# Altium integrated library NSC Interface.IntLib: 481 symbols (part 10 of 16)
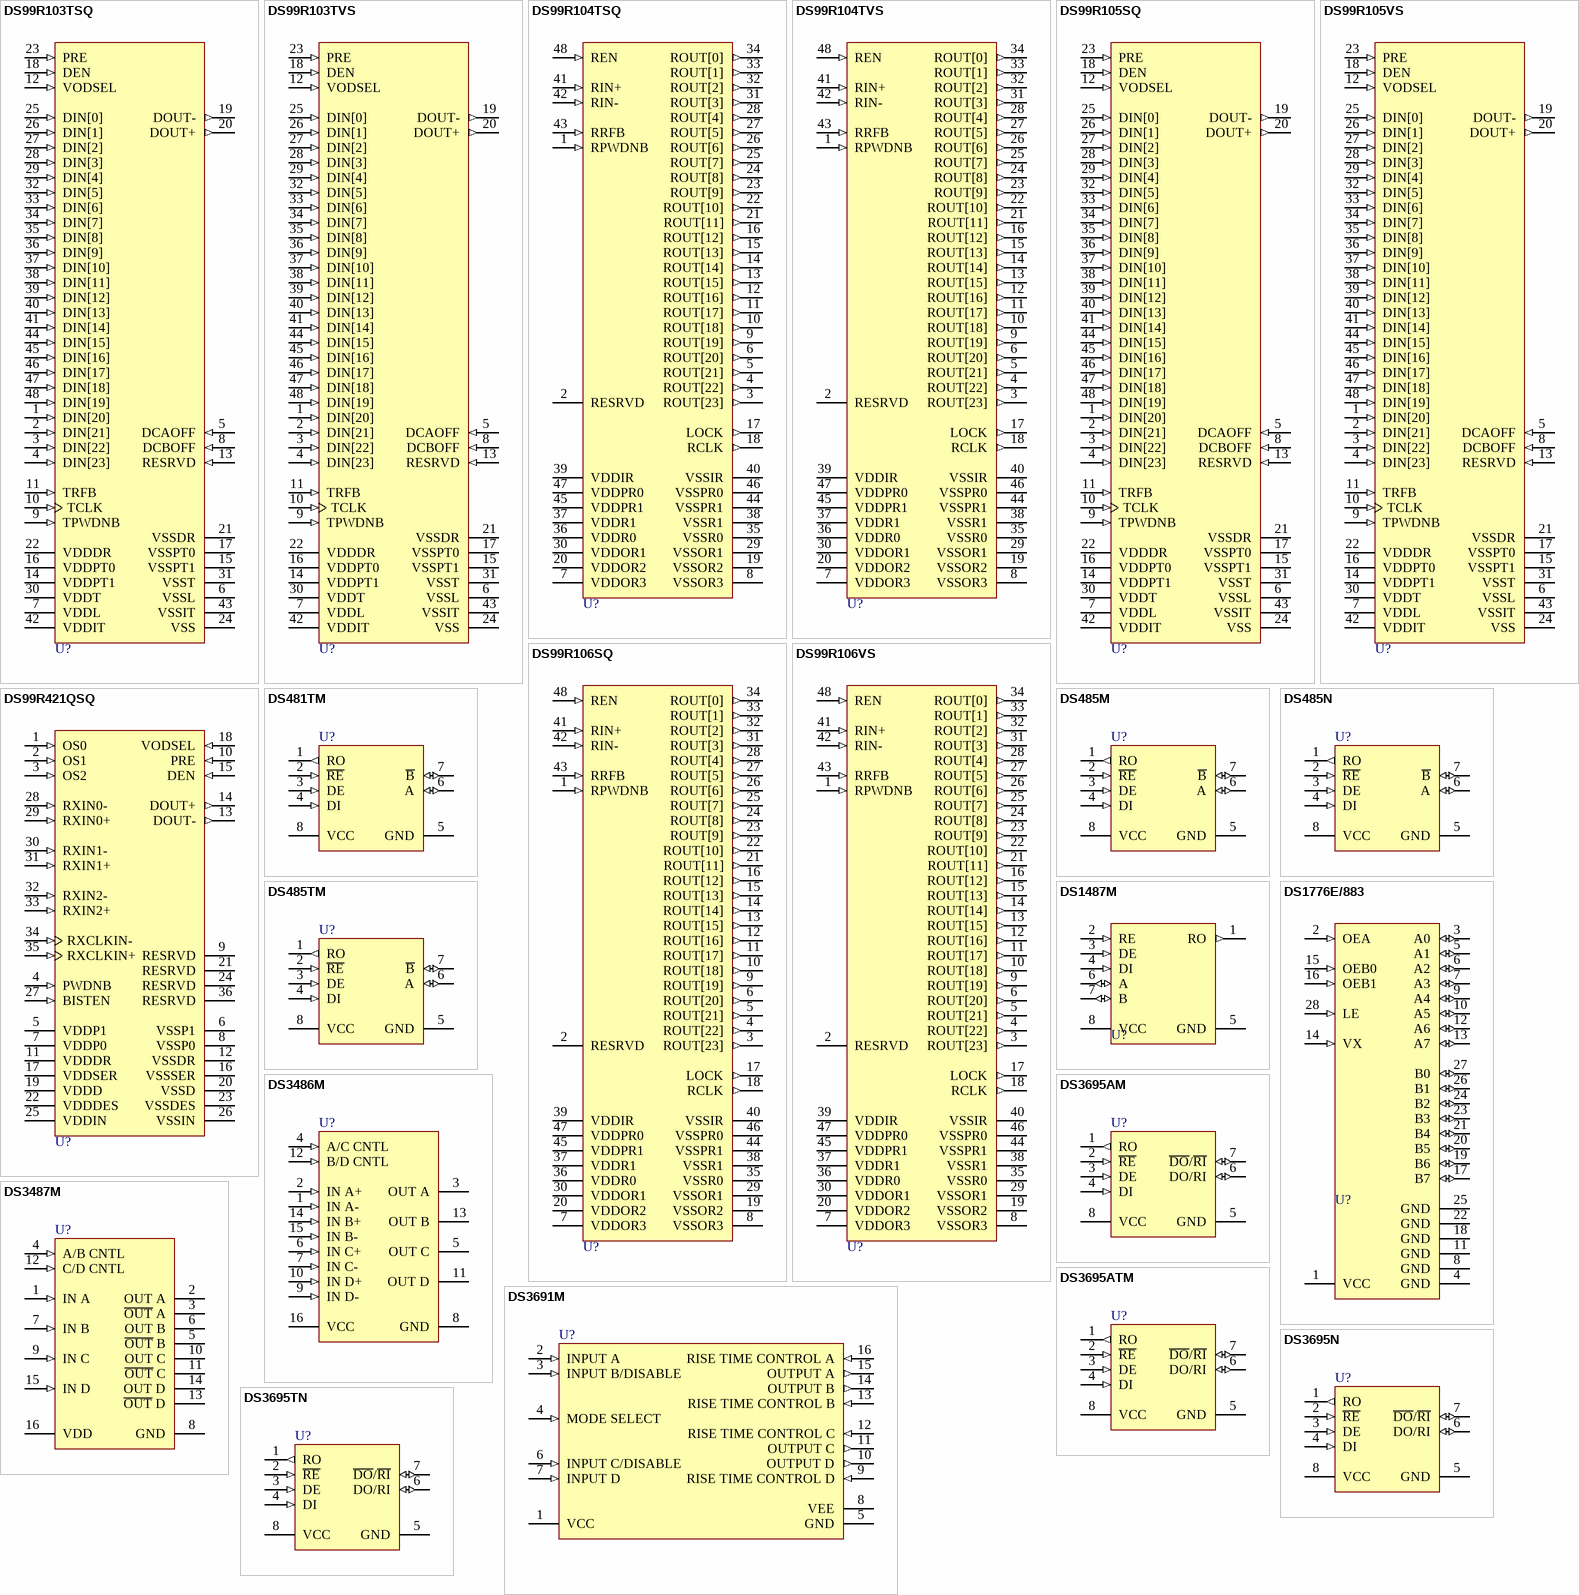
[diagram p49: symbols DS99R103TSQ to DS3695TN]

## DS99R105VS
designator U?
3-40MHz DC- Balanced 24-Bit LVDS Serializer; PartNumber: DS99R105VS; Manufacturer: National Semiconductor; CompType: Interface IC; PackageTopMarking: NSUZXYTT*DS99R105*VS; Published: 4-Dec-2008; DatasheetVersion: Oct-2007; PackageVersion: revA, Apr-2000; PackageReference: VBC48A; Publisher: Altium Limited; PackageDescription: TQFP, Jedec Metric, 7 x 7 x 1mm, 48 Lead, 0.5mm Pitch; RoHS: Y; PinCount: 48; DigiKeyPartNumber: DS99R105VS-ND; Code_JEDEC: MS-026-ABC; ComponentLink1Description: DS99R105 Datasheet; ComponentLink1URL: http://www.national.com/ds/DS/DS99R105.pdf; ComponentLink2Description: DS99R105 Web Page; ComponentLink2URL: http://www.national.com/pf/DS/DS99R105.html; ComponentLink3Description: VBC48A Package Page; ComponentLink3URL: http://www.national.com/packaging/folders/vbc48a.html
footprint VBC48A_N (Thin QFP, 48-Leads, Body 7x7mm, Pitch 0.5mm, IPC Medium Density)
footprint VBC48A_L (Thin QFP, 48-Leads, Body 7x7mm, Pitch 0.5mm, IPC High Density)
footprint VBC48A_M (Thin QFP, 48-Leads, Body 7x7mm, Pitch 0.5mm, IPC Low Density)
pins: 1 DIN[20] (in), 2 DIN[21] (in), 3 DIN[22] (in), 4 DIN[23] (in), 5 DCAOFF (in), 6 VSSL (power), 7 VDDL (power), 8 DCBOFF (in), 9 TPWDNB (in), 10 TCLK (in), 11 TRFB (in), 12 VODSEL (in), 13 RESRVD (in), 14 VDDPT1 (power), 15 VSSPT1 (power), 16 VDDPT0 (power), 17 VSSPT0 (power), 18 DEN (in), 19 DOUT- (out), 20 DOUT+ (out), 21 VSSDR (power), 22 VDDDR (power), 23 PRE (in), 24 VSS (power), 25 DIN[0] (in), 26 DIN[1] (in), 27 DIN[2] (in), 28 DIN[3] (in), 29 DIN[4] (in), 30 VDDT (power), 31 VSST (power), 32 DIN[5] (in), 33 DIN[6] (in), 34 DIN[7] (in), 35 DIN[8] (in), 36 DIN[9] (in), 37 DIN[10] (in), 38 DIN[11] (in), 39 DIN[12] (in), 40 DIN[13] (in), 41 DIN[14] (in), 42 VDDIT (power), 43 VSSIT (power), 44 DIN[15] (in), 45 DIN[16] (in), 46 DIN[17] (in), 47 DIN[18] (in), 48 DIN[19] (in)

## DS99R106SQ
designator U?
3-40MHz DC- Balanced 24-Bit LVDS Deserializer; PartNumber: DS99R106SQ; Manufacturer: National Semiconductor; CompType: Interface IC; PackageTopMarking: NS*UZXYTT*DS99R106; Published: 4-Dec-2008; DatasheetVersion: Oct-2007; PackageVersion: revA, Jul-2004; PackageReference: SQA48D; Publisher: Altium Limited; PackageDescription: LLP, Quad, 7 x 7 x 0.8mm, 48 Lead, 0.5mm Pitch, 4.1 x 4.1mm Exposed Pad; RoHS: Y; PinCount: 48; DigiKeyPartNumber: DS99R106SQTR-ND; ComponentLink1Description: DS99R106 Datasheet; ComponentLink1URL: http://www.national.com/ds/DS/DS99R106.pdf; ComponentLink2Description: DS99R106 Web Page; ComponentLink2URL: http://www.national.com/pf/DS/DS99R106.html; ComponentLink3Description: SQA48D Package Page; ComponentLink3URL: http://www.national.com/packaging/folders/sqa48d.html
footprint SQA48D (QFN, 48-Leads, Body 7x7mm, Pitch 0.5mm, NSC Recommended)
pins: 1 RPWDNB (in), 2 RESRVD, 3 ROUT[23] (out), 4 ROUT[22] (out), 5 ROUT[21] (out), 6 ROUT[20] (out), 7 VDDOR3 (power), 8 VSSOR3 (power), 9 ROUT[19] (out), 10 ROUT[18] (out), 11 ROUT[17] (out), 12 ROUT[16] (out), 13 ROUT[15] (out), 14 ROUT[14] (out), 15 ROUT[13] (out), 16 ROUT[12] (out), 17 LOCK (out), 18 RCLK (out), 19 VSSOR2 (power), 20 VDDOR2 (power), 21 ROUT[11] (out), 22 ROUT[10] (out), 23 ROUT[9] (out), 24 ROUT[8] (out), 25 ROUT[7] (out), 26 ROUT[6] (out), 27 ROUT[5] (out), 28 ROUT[4] (out), 29 VSSOR1 (power), 30 VDDOR1 (power), 31 ROUT[3] (out), 32 ROUT[2] (out), 33 ROUT[1] (out), 34 ROUT[0] (out), 35 VSSR0 (power), 36 VDDR0 (power), 37 VDDR1 (power), 38 VSSR1 (power), 39 VDDIR (power), 40 VSSIR (power), 41 RIN+ (in), 42 RIN- (in), 43 RRFB (in), 44 VSSPR1 (power), 45 VDDPR1 (power), 46 VSSPR0 (power), 47 VDDPR0 (power), 48 REN (in)

## DS99R106VS
designator U?
3-40MHz DC- Balanced 24-Bit LVDS Deserializer; PartNumber: DS99R106VS; Manufacturer: National Semiconductor; CompType: Interface IC; PackageTopMarking: NSUZXYTT*DS99R106*VS; Published: 4-Dec-2008; DatasheetVersion: Oct-2007; PackageVersion: revA, Apr-2000; PackageReference: VBC48A; Publisher: Altium Limited; PackageDescription: TQFP, Jedec Metric, 7 x 7 x 1mm, 48 Lead, 0.5mm Pitch; RoHS: Y; PinCount: 48; DigiKeyPartNumber: DS99R106VS-ND; Code_JEDEC: MS-026-ABC; ComponentLink1Description: DS99R106 Datasheet; ComponentLink1URL: http://www.national.com/ds/DS/DS99R106.pdf; ComponentLink2Description: DS99R106 Web Page; ComponentLink2URL: http://www.national.com/pf/DS/DS99R106.html; ComponentLink3Description: VBC48A Package Page; ComponentLink3URL: http://www.national.com/packaging/folders/vbc48a.html
footprint VBC48A_N (Thin QFP, 48-Leads, Body 7x7mm, Pitch 0.5mm, IPC Medium Density)
footprint VBC48A_L (Thin QFP, 48-Leads, Body 7x7mm, Pitch 0.5mm, IPC High Density)
footprint VBC48A_M (Thin QFP, 48-Leads, Body 7x7mm, Pitch 0.5mm, IPC Low Density)
pins: 1 RPWDNB (in), 2 RESRVD, 3 ROUT[23] (out), 4 ROUT[22] (out), 5 ROUT[21] (out), 6 ROUT[20] (out), 7 VDDOR3 (power), 8 VSSOR3 (power), 9 ROUT[19] (out), 10 ROUT[18] (out), 11 ROUT[17] (out), 12 ROUT[16] (out), 13 ROUT[15] (out), 14 ROUT[14] (out), 15 ROUT[13] (out), 16 ROUT[12] (out), 17 LOCK (out), 18 RCLK (out), 19 VSSOR2 (power), 20 VDDOR2 (power), 21 ROUT[11] (out), 22 ROUT[10] (out), 23 ROUT[9] (out), 24 ROUT[8] (out), 25 ROUT[7] (out), 26 ROUT[6] (out), 27 ROUT[5] (out), 28 ROUT[4] (out), 29 VSSOR1 (power), 30 VDDOR1 (power), 31 ROUT[3] (out), 32 ROUT[2] (out), 33 ROUT[1] (out), 34 ROUT[0] (out), 35 VSSR0 (power), 36 VDDR0 (power), 37 VDDR1 (power), 38 VSSR1 (power), 39 VDDIR (power), 40 VSSIR (power), 41 RIN+ (in), 42 RIN- (in), 43 RRFB (in), 44 VSSPR1 (power), 45 VDDPR1 (power), 46 VSSPR0 (power), 47 VDDPR0 (power), 48 REN (in)

## DS99R421QSQ
designator U?
5-43 MHz FPD-Link LVDS (3 Data + 1 Clock) to Single Embedded Clock DC-Balanced LVDS Converter; PartNumber: DS99R421QSQ; Manufacturer: National Semiconductor; CompType: Interface IC; PackageTopMarking: NS*UZXYTT*99R421Q; Published: 4-Dec-2008; DatasheetVersion: Jan-2008; PackageVersion: revA, Jun-2003; PackageReference: SQA36A; Publisher: Altium Limited; PackageDescription: LLP, Plastic, Quad, 6 x 6 x 0.8mm Body, 36 Lead, 0.5mm Pitch, No Pullback; RoHS: Y; PinCount: 36; DigiKeyPartNumber: DS99R421QSQTR-ND; ComponentLink1Description: DS99R421 Datasheet; ComponentLink1URL: http://www.national.com/ds/DS/DS99R421.pdf; ComponentLink2Description: DS99R421 Web Page; ComponentLink2URL: http://www.national.com/pf/DS/DS99R421.html; ComponentLink3Description: SQA36A Package Page; ComponentLink3URL: http://www.national.com/packaging/folders/sqa36a.html
footprint SQA36A (QFN, 36-Leads, Body 6x6mm, Pitch 0.5mm, NSC Recommended)
pins: 1 OS0 (in), 2 OS1 (in), 3 OS2 (in), 4 PWDNB (in), 5 VDDP1 (power), 6 VSSP1 (power), 7 VDDP0 (power), 8 VSSP0 (power), 9 RESRVD, 10 PRE (in), 11 VDDDR (power), 12 VSSDR (power), 13 DOUT- (out), 14 DOUT+ (out), 15 DEN (in), 16 VSSSER (power), 17 VDDSER (power), 18 VODSEL (in), 19 VDDD (power), 20 VSSD (power), 21 RESRVD, 22 VDDDES (power), 23 VSSDES (power), 24 RESRVD, 25 VDDIN (power), 26 VSSIN (power), 27 BISTEN (in), 28 RXIN0- (in), 29 RXIN0+ (in), 30 RXIN1- (in), 31 RXIN1+ (in), 32 RXIN2- (in), 33 RXIN2+ (in), 34 RXCLKIN- (in), 35 RXCLKIN+ (in), 36 RESRVD

## DS481TM
designator U?
Low Power RS-485/RS-422 Multipoint Transceiver with Sleep Mode; PartNumber: DS481TM; Manufacturer: National Semiconductor; CompType: Interface IC; PackageTopMarking: NSZXTT*DS481*TM; Published: 4-Dec-2008; DatasheetVersion: Jul-2000; PackageVersion: revL, Sep-2006; PackageReference: M08A; Publisher: Altium Limited; PackageDescription: SOIC Narrow, 4.9 x 3.9 x 1.45mm, 8 Lead, 1.27mm Pitch; RoHS: O; PinCount: 8; DigiKeyPartNumber: DS481TMX-ND; Code_JEDEC: MS-012-AA; Code_IPC: SOIC127P600-8; ComponentLink1Description: DS481 Datasheet; ComponentLink1URL: http://www.national.com/ds/DS/DS481.pdf; ComponentLink2Description: DS481 Web Page; ComponentLink2URL: http://www.national.com/pf/DS/DS481.html; ComponentLink3Description: M08A Package Page; ComponentLink3URL: http://www.national.com/packaging/folders/m08a.html
footprint M08A_N (SOIC, 8-Leads, Body 4.9x3.9mm, Pitch 1.27mm, IPC Medium Density)
footprint M08A_L (SOIC, 8-Leads, Body 4.9x3.9mm, Pitch 1.27mm, IPC High Density)
footprint M08A_M (SOIC, 8-Leads, Body 4.9x3.9mm, Pitch 1.27mm, IPC Low Density)
pins: 1 RO (out), 2 ~{RE} (in), 3 DE (in), 4 DI (in), 5 GND (power), 6 A (io), 7 ~{B} (io), 8 VCC (power)

## DS485M
designator U?
Low-Power RS-485/RS-422 Multipoint Transceiver; PartNumber: DS485M; Manufacturer: National Semiconductor; CompType: Interface IC; PackageTopMarking: NSZXTT*DS485*M; Published: 4-Dec-2008; DatasheetVersion: Jul-1998; PackageVersion: revL, Sep-2006; PackageReference: M08A; Publisher: Altium Limited; PackageDescription: SOIC Narrow, 4.9 x 3.9 x 1.45mm, 8 Lead, 1.27mm Pitch; RoHS: Y; PinCount: 8; DigiKeyPartNumber: DS485M-ND; Code_JEDEC: MS-012-AA; Code_IPC: SOIC127P600-8; ComponentLink1Description: DS485 Datasheet; ComponentLink1URL: http://www.national.com/ds/DS/DS485.pdf; ComponentLink2Description: DS485 Web Page; ComponentLink2URL: http://www.national.com/pf/DS/DS485.html; ComponentLink3Description: M08A Package Page; ComponentLink3URL: http://www.national.com/packaging/folders/m08a.html
footprint M08A_N (SOIC, 8-Leads, Body 4.9x3.9mm, Pitch 1.27mm, IPC Medium Density)
footprint M08A_L (SOIC, 8-Leads, Body 4.9x3.9mm, Pitch 1.27mm, IPC High Density)
footprint M08A_M (SOIC, 8-Leads, Body 4.9x3.9mm, Pitch 1.27mm, IPC Low Density)
pins: 1 RO (out), 2 ~{RE} (in), 3 DE (in), 4 DI (in), 5 GND (power), 6 A (io), 7 ~{B} (io), 8 VCC (power)

## DS485N
designator U?
Low-Power RS-485/RS-422 Multipoint Transceiver; PartNumber: DS485N; Manufacturer: National Semiconductor; CompType: Interface IC; PackageTopMarking: NSUZXYTT*DS485*N; Published: 4-Dec-2008; DatasheetVersion: Jul-1998; PackageVersion: revG, May-2006; PackageReference: N08E; Publisher: Altium Limited; PackageDescription: MDIP, .365 x .250 x .130in, 8 Lead, .100in Pitch; RoHS: Y; PinCount: 8; DigiKeyPartNumber: DS485N-ND; Code_JEDEC: MS-001-BA; ComponentLink1Description: DS485 Datasheet; ComponentLink1URL: http://www.national.com/ds/DS/DS485.pdf; ComponentLink2Description: DS485 Web Page; ComponentLink2URL: http://www.national.com/pf/DS/DS485.html; ComponentLink3Description: N08E Package Page; ComponentLink3URL: http://www.national.com/packaging/folders/n08e.html
footprint N08E (DIP, 8-Leads, Row Spacing 7.62mm, Pitch 2.54mm, Body 9.91x6.35mm)
pins: 1 RO (out), 2 ~{RE} (in), 3 DE (in), 4 DI (in), 5 GND (power), 6 A (io), 7 ~{B} (io), 8 VCC (power)

## DS485TM
designator U?
Low-Power RS-485/RS-422 Multipoint Transceiver; PartNumber: DS485TM; Manufacturer: National Semiconductor; CompType: Interface IC; PackageTopMarking: NSZXTT*DS485*TM; Published: 4-Dec-2008; DatasheetVersion: Jul-1998; PackageVersion: revL, Sep-2006; PackageReference: M08A; Publisher: Altium Limited; PackageDescription: SOIC Narrow, 4.9 x 3.9 x 1.45mm, 8 Lead, 1.27mm Pitch; RoHS: O; PinCount: 8; DigiKeyPartNumber: DS485TM-ND; Code_JEDEC: MS-012-AA; Code_IPC: SOIC127P600-8; ComponentLink1Description: DS485 Datasheet; ComponentLink1URL: http://www.national.com/ds/DS/DS485.pdf; ComponentLink2Description: DS485 Web Page; ComponentLink2URL: http://www.national.com/pf/DS/DS485.html; ComponentLink3Description: M08A Package Page; ComponentLink3URL: http://www.national.com/packaging/folders/m08a.html
footprint M08A_N (SOIC, 8-Leads, Body 4.9x3.9mm, Pitch 1.27mm, IPC Medium Density)
footprint M08A_L (SOIC, 8-Leads, Body 4.9x3.9mm, Pitch 1.27mm, IPC High Density)
footprint M08A_M (SOIC, 8-Leads, Body 4.9x3.9mm, Pitch 1.27mm, IPC Low Density)
pins: 1 RO (out), 2 ~{RE} (in), 3 DE (in), 4 DI (in), 5 GND (power), 6 A (io), 7 ~{B} (io), 8 VCC (power)

## DS1487M
designator U?
Low Power RS-485/1/4 Unit Load Multipoint Transceiver; PartNumber: DS1487M; Manufacturer: National Semiconductor; CompType: Interface IC; PackageTopMarking: NSZXTT*DS148*7M; Published: 4-Dec-2008; DatasheetVersion: Jul-1998; PackageVersion: revL, Sep-2006; PackageReference: M08A; Publisher: Altium Limited; PackageDescription: SOIC Narrow, 4.9 x 3.9 x 1.45mm, 8 Lead, 1.27mm Pitch; RoHS: Y; PinCount: 8; DigiKeyPartNumber: DS1487M-ND; Code_JEDEC: MS-012-AA; Code_IPC: SOIC127P600-8; ComponentLink1Description: DS1487 Datasheet; ComponentLink1URL: http://www.national.com/ds/DS/DS1487.pdf; ComponentLink2Description: DS1487 Web Page; ComponentLink2URL: http://www.national.com/pf/DS/DS1487.html; ComponentLink3Description: M08A Package Page; ComponentLink3URL: http://www.national.com/packaging/folders/m08a.html
footprint M08A_N (SOIC, 8-Leads, Body 4.9x3.9mm, Pitch 1.27mm, IPC Medium Density)
footprint M08A_L (SOIC, 8-Leads, Body 4.9x3.9mm, Pitch 1.27mm, IPC High Density)
footprint M08A_M (SOIC, 8-Leads, Body 4.9x3.9mm, Pitch 1.27mm, IPC Low Density)
pins: 1 RO (out), 2 RE (in), 3 DE (in), 4 DI (in), 5 GND (power), 6 A (io), 7 B (io), 8 VCC (power)

## DS1776E/883
designator U?
Pi-Bus Transceiver; PartNumber: DS1776E/883; Manufacturer: National Semiconductor; CompType: Interface IC; PackageTopMarking: NSZSSXXYYA*DS1776E*/883 Q*5962-*9231701M3A; Published: 4-Dec-2008; DatasheetVersion: Jan-1996; PackageVersion: revG, Apr-2004; PackageReference: E28A; Publisher: Altium Limited; PackageDescription: Leadless Chip Carrier, .450 x .450 x .069in Body, Type C, 28 Terminal; RoHS: N; PinCount: 28; Code_JEDEC: MS-004-CC; ComponentLink1Description: DS1776 Datasheet; ComponentLink1URL: http://www.national.com/ds/DS/DS1776.pdf; ComponentLink2Description: DS1776 Web Page; ComponentLink2URL: http://www.national.com/pf/DS/DS1776.html; ComponentLink3Description: E28A Package Page; ComponentLink3URL: http://www.national.com/packaging/folders/e28a.html
footprint E28A_N (Leadless Chip Carrier, 28-Leads, Body 11.4x11.4mm, Pitch 1.27mm, IPC Medium Density)
footprint E28A_L (Leadless Chip Carrier, 28-Leads, Body 11.4x11.4mm, Pitch 1.27mm, IPC High Density)
footprint E28A_M (Leadless Chip Carrier, 28-Leads, Body 11.4x11.4mm, Pitch 1.27mm, IPC Low Density)
pins: 1 VCC (power), 2 OEA (in), 3 A0 (io), 4 GND (power), 5 A1 (io), 6 A2 (io), 7 A3 (io), 8 GND (power), 9 A4 (io), 10 A5 (io), 11 GND (power), 12 A6 (io), 13 A7 (io), 14 VX (in), 15 OEB0 (in), 16 OEB1 (in), 17 B7 (io), 18 GND (power), 19 B6 (io), 20 B5 (io), 21 B4 (io), 22 GND (power), 23 B3 (io), 24 B2 (io), 25 GND (power), 26 B1 (io), 27 B0 (io), 28 LE (in)

## DS3486M
designator U?
Quad RS-422, RS-423 Line Receiver; PartNumber: DS3486M; Manufacturer: National Semiconductor; CompType: Interface IC; PackageTopMarking: NSUZXYTT*DS3486M; Published: 4-Dec-2008; DatasheetVersion: Apr-2007; PackageVersion: revJ, Aug-1995; PackageReference: M16A; Publisher: Altium Limited; PackageDescription: Molded Package, S.O., .150in Wide, 16 Lead; RoHS: Y; PinCount: 16; DigiKeyPartNumber: DS3486M-ND; Code_JEDEC: MS-012-AC; Code_IPC: SOIC127P600-16; ComponentLink1Description: DS3486 Datasheet; ComponentLink1URL: http://www.national.com/ds/DS/DS3486.pdf; ComponentLink2Description: DS3486 Web Page; ComponentLink2URL: http://www.national.com/pf/DS/DS3486.html; ComponentLink3Description: M16A Package Page; ComponentLink3URL: http://www.national.com/packaging/folders/m16a.html
footprint M16A_N (SOIC, 16-Leads, Body 9.9x3.9mm, Pitch 1.27mm, IPC Medium Density)
footprint M16A_L (SOIC, 16-Leads, Body 9.9x3.9mm, Pitch 1.27mm, IPC High Density)
footprint M16A_M (SOIC, 16-Leads, Body 9.9x3.9mm, Pitch 1.27mm, IPC Low Density)
pins: 1 IN A- (in), 2 IN A+ (in), 3 OUT A (hiz), 4 A/C CNTL (in), 5 OUT C (hiz), 6 IN C+ (in), 7 IN C- (in), 8 GND (power), 9 IN D- (in), 10 IN D+ (in), 11 OUT D (hiz), 12 B/D CNTL (in), 13 OUT B (hiz), 14 IN B+ (in), 15 IN B- (in), 16 VCC (power)

## DS3487M
designator U?
Quad Tri-State Line Driver; PartNumber: DS3487M; Manufacturer: National Semiconductor; CompType: Interface IC; PackageTopMarking: NSUZXYTT*DS3487M; Published: 4-Dec-2008; DatasheetVersion: May-1998; PackageVersion: revJ, Aug-1995; PackageReference: M16A; Publisher: Altium Limited; PackageDescription: Molded Package, S.O., .150in Wide, 16 Lead; RoHS: O; PinCount: 16; DigiKeyPartNumber: DS3487M-ND; Code_JEDEC: MS-012-AC; Code_IPC: SOIC127P600-16; ComponentLink1Description: DS3487 Datasheet; ComponentLink1URL: http://www.national.com/ds/DS/DS3487.pdf; ComponentLink2Description: DS3487 Web Page; ComponentLink2URL: http://www.national.com/pf/DS/DS3487.html; ComponentLink3Description: M16A Package Page; ComponentLink3URL: http://www.national.com/packaging/folders/m16a.html
footprint M16A_N (SOIC, 16-Leads, Body 9.9x3.9mm, Pitch 1.27mm, IPC Medium Density)
footprint M16A_L (SOIC, 16-Leads, Body 9.9x3.9mm, Pitch 1.27mm, IPC High Density)
footprint M16A_M (SOIC, 16-Leads, Body 9.9x3.9mm, Pitch 1.27mm, IPC Low Density)
pins: 1 IN A (in), 2 OUT A (hiz), 3 ~{OUT} A (hiz), 4 A/B CNTL (in), 5 ~{OUT} B (hiz), 6 OUT B (hiz), 7 IN B (in), 8 GND (power), 9 IN C (in), 10 OUT C (hiz), 11 ~{OUT} C (hiz), 12 C/D CNTL (in), 13 ~{OUT} D (hiz), 14 OUT D (hiz), 15 IN D (in), 16 VDD (power)

## DS3691M
designator U?
RS-422/RS-423 Line Drivers With TRI-STATE Outputs; PartNumber: DS3691M; Manufacturer: National Semiconductor; CompType: Interface IC; PackageTopMarking: NSUZXYTT*DS3691M*AM26LS30SC; Published: 4-Dec-2008; DatasheetVersion: Jul-1998; PackageVersion: revJ, Aug-1995; PackageReference: M16A; Publisher: Altium Limited; PackageDescription: Molded Package, S.O., .150in Wide, 16 Lead; RoHS: O; PinCount: 16; DigiKeyPartNumber: DS3691M-ND; Code_JEDEC: MS-012-AC; Code_IPC: SOIC127P600-16; ComponentLink1Description: DS3691 Datasheet; ComponentLink1URL: http://www.national.com/ds/DS/DS3691.pdf; ComponentLink2Description: DS3691 Web Page; ComponentLink2URL: http://www.national.com/pf/DS/DS3691.html; ComponentLink3Description: M16A Package Page; ComponentLink3URL: http://www.national.com/packaging/folders/m16a.html
footprint M16A_N (SOIC, 16-Leads, Body 9.9x3.9mm, Pitch 1.27mm, IPC Medium Density)
footprint M16A_L (SOIC, 16-Leads, Body 9.9x3.9mm, Pitch 1.27mm, IPC High Density)
footprint M16A_M (SOIC, 16-Leads, Body 9.9x3.9mm, Pitch 1.27mm, IPC Low Density)
pins: 1 VCC (power), 2 INPUT A (in), 3 INPUT B/DISABLE (in), 4 MODE SELECT (in), 5 GND (power), 6 INPUT C/DISABLE (in), 7 INPUT D (in), 8 VEE (power), 9 RISE TIME CONTROL D (in), 10 OUTPUT D (out), 11 OUTPUT C (out), 12 RISE TIME CONTROL C (in), 13 RISE TIME CONTROL B (in), 14 OUTPUT B (out), 15 OUTPUT A (out), 16 RISE TIME CONTROL A (in)

## DS3695AM
designator U?
Multipoint RS485/RS422 Transceiver; PartNumber: DS3695AM; Manufacturer: National Semiconductor; CompType: Interface IC; PackageTopMarking: NSZXTT*DS36*95AM; Published: 4-Dec-2008; DatasheetVersion: Feb-1996; PackageVersion: revL, Sep-2006; PackageReference: M08A; Publisher: Altium Limited; PackageDescription: SOIC Narrow, 4.9 x 3.9 x 1.45mm, 8 Lead, 1.27mm Pitch; RoHS: O; PinCount: 8; DigiKeyPartNumber: DS3695AM-ND; Code_JEDEC: MS-012-AA; Code_IPC: SOIC127P600-8; ComponentLink1Description: DS3695A Datasheet; ComponentLink1URL: http://www.national.com/ds/DS/DS3695A.pdf; ComponentLink2Description: DS3695A Web Page; ComponentLink2URL: http://www.national.com/pf/DS/DS3695A.html; ComponentLink3Description: M08A Package Page; ComponentLink3URL: http://www.national.com/packaging/folders/m08a.html
footprint M08A_N (SOIC, 8-Leads, Body 4.9x3.9mm, Pitch 1.27mm, IPC Medium Density)
footprint M08A_L (SOIC, 8-Leads, Body 4.9x3.9mm, Pitch 1.27mm, IPC High Density)
footprint M08A_M (SOIC, 8-Leads, Body 4.9x3.9mm, Pitch 1.27mm, IPC Low Density)
pins: 1 RO (out), 2 ~{RE} (in), 3 DE (in), 4 DI (in), 5 GND (power), 6 DO/RI (io), 7 ~{DO}/~{RI} (io), 8 VCC (power)

## DS3695ATM
designator U?
Multipoint RS485/RS422 Transceiver; PartNumber: DS3695ATM; Manufacturer: National Semiconductor; CompType: Interface IC; PackageTopMarking: NSZXTT*DS369*5ATM; Published: 4-Dec-2008; DatasheetVersion: Feb-1996; PackageVersion: revL, Sep-2006; PackageReference: M08A; Publisher: Altium Limited; PackageDescription: SOIC Narrow, 4.9 x 3.9 x 1.45mm, 8 Lead, 1.27mm Pitch; RoHS: O; PinCount: 8; DigiKeyPartNumber: DS3695ATM-ND; Code_JEDEC: MS-012-AA; Code_IPC: SOIC127P600-8; ComponentLink1Description: DS3695AT Datasheet; ComponentLink1URL: http://www.national.com/ds/DS/DS3695AT.pdf; ComponentLink2Description: DS3695AT Web Page; ComponentLink2URL: http://www.national.com/pf/DS/DS3695AT.html; ComponentLink3Description: M08A Package Page; ComponentLink3URL: http://www.national.com/packaging/folders/m08a.html
footprint M08A_N (SOIC, 8-Leads, Body 4.9x3.9mm, Pitch 1.27mm, IPC Medium Density)
footprint M08A_L (SOIC, 8-Leads, Body 4.9x3.9mm, Pitch 1.27mm, IPC High Density)
footprint M08A_M (SOIC, 8-Leads, Body 4.9x3.9mm, Pitch 1.27mm, IPC Low Density)
pins: 1 RO (out), 2 ~{RE} (in), 3 DE (in), 4 DI (in), 5 GND (power), 6 DO/RI (io), 7 ~{DO}/~{RI} (io), 8 VCC (power)

## DS3695N
designator U?
Multipoint RS485/RS422 Transceiver/Repeater; PartNumber: DS3695N; Manufacturer: National Semiconductor; CompType: Interface IC; PackageTopMarking: NSUZXYTT*DS3695N; Published: 4-Dec-2008; DatasheetVersion: May-1998; PackageVersion: revG, May-2006; PackageReference: N08E; Publisher: Altium Limited; PackageDescription: MDIP, .365 x .250 x .130in, 8 Lead, .100in Pitch; RoHS: O; PinCount: 8; DigiKeyPartNumber: DS3695N-ND; Code_JEDEC: MS-001-BA; ComponentLink1Description: DS3695 Datasheet; ComponentLink1URL: http://www.national.com/ds/DS/DS3695.pdf; ComponentLink2Description: DS3695 Web Page; ComponentLink2URL: http://www.national.com/pf/DS/DS3695.html; ComponentLink3Description: N08E Package Page; ComponentLink3URL: http://www.national.com/packaging/folders/n08e.html
footprint N08E (DIP, 8-Leads, Row Spacing 7.62mm, Pitch 2.54mm, Body 9.91x6.35mm)
pins: 1 RO (out), 2 ~{RE} (in), 3 DE (in), 4 DI (in), 5 GND (power), 6 DO/RI (io), 7 ~{DO}/~{RI} (io), 8 VCC (power)

## DS3695TN
designator U?
Multipoint RS485/RS422 Transceiver/Repeater; PartNumber: DS3695TN; Manufacturer: National Semiconductor; CompType: Interface IC; PackageTopMarking: NSUZXYTT*DS*3695TN; Published: 4-Dec-2008; DatasheetVersion: May-1998; PackageVersion: revG, May-2006; PackageReference: N08E; Publisher: Altium Limited; PackageDescription: MDIP, .365 x .250 x .130in, 8 Lead, .100in Pitch; RoHS: O; PinCount: 8; DigiKeyPartNumber: DS3695TN-ND; Code_JEDEC: MS-001-BA; ComponentLink1Description: DS3695T Datasheet; ComponentLink1URL: http://www.national.com/ds/DS/DS3695T.pdf; ComponentLink2Description: DS3695T Web Page; ComponentLink2URL: http://www.national.com/pf/DS/DS3695T.html; ComponentLink3Description: N08E Package Page; ComponentLink3URL: http://www.national.com/packaging/folders/n08e.html
footprint N08E (DIP, 8-Leads, Row Spacing 7.62mm, Pitch 2.54mm, Body 9.91x6.35mm)
pins: 1 RO (out), 2 ~{RE} (in), 3 DE (in), 4 DI (in), 5 GND (power), 6 DO/RI (io), 7 ~{DO}/~{RI} (io), 8 VCC (power)

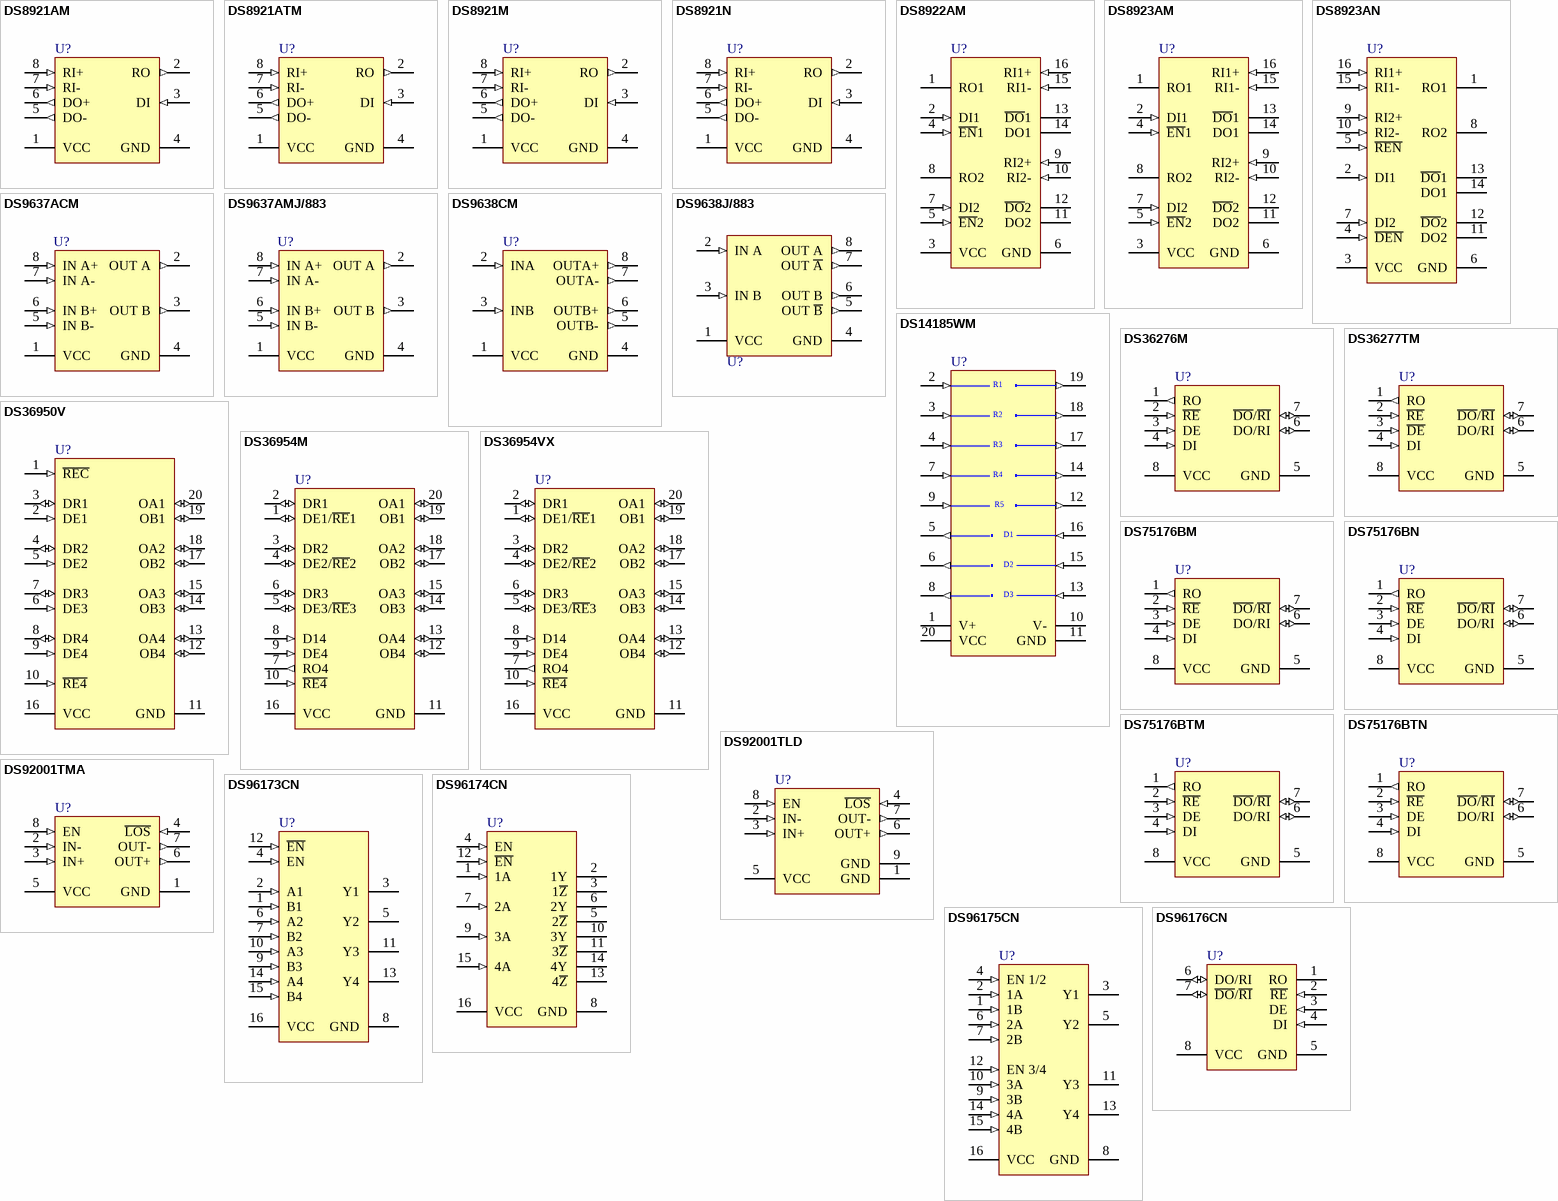
[diagram p27: symbols DS8921AM to DS96176CN]

## DS8921AM
designator U?
Differential Line Driver and Receiver Pair; PartNumber: DS8921AM; Manufacturer: National Semiconductor; CompType: Interface IC; PackageTopMarking: NSZXTT*DS89*21AM; Published: 4-Dec-2008; DatasheetVersion: May-1998; PackageVersion: revL, Sep-2006; PackageReference: M08A; Publisher: Altium Limited; PackageDescription: SOIC Narrow, 4.9 x 3.9 x 1.45mm, 8 Lead, 1.27mm Pitch; RoHS: O; PinCount: 8; DigiKeyPartNumber: DS8921AM-ND; Code_JEDEC: MS-012-AA; Code_IPC: SOIC127P600-8; ComponentLink1Description: DS8921A Datasheet; ComponentLink1URL: http://www.national.com/ds/DS/DS8921.pdf; ComponentLink2Description: DS8921A Web Page; ComponentLink2URL: http://www.national.com/pf/DS/DS8921A.html; ComponentLink3Description: M08A Package Page; ComponentLink3URL: http://www.national.com/packaging/folders/m08a.html
footprint M08A_N (SOIC, 8-Leads, Body 4.9x3.9mm, Pitch 1.27mm, IPC Medium Density)
footprint M08A_L (SOIC, 8-Leads, Body 4.9x3.9mm, Pitch 1.27mm, IPC High Density)
footprint M08A_M (SOIC, 8-Leads, Body 4.9x3.9mm, Pitch 1.27mm, IPC Low Density)
pins: 1 VCC (power), 2 RO (out), 3 DI (in), 4 GND (power), 5 DO- (out), 6 DO+ (out), 7 RI- (in), 8 RI+ (in)

## DS8921ATM
designator U?
Differential Line Driver and Receiver Pair; PartNumber: DS8921ATM; Manufacturer: National Semiconductor; CompType: Interface IC; PackageTopMarking: NSZXTT*DS892*1ATM; Published: 4-Dec-2008; DatasheetVersion: May-1998; PackageVersion: revL, Sep-2006; PackageReference: M08A; Publisher: Altium Limited; PackageDescription: SOIC Narrow, 4.9 x 3.9 x 1.45mm, 8 Lead, 1.27mm Pitch; RoHS: O; PinCount: 8; DigiKeyPartNumber: DS8921ATM-ND; Code_JEDEC: MS-012-AA; Code_IPC: SOIC127P600-8; ComponentLink1Description: DS8921AT Datasheet; ComponentLink1URL: http://www.national.com/ds/DS/DS8921.pdf; ComponentLink2Description: DS8921AT Web Page; ComponentLink2URL: http://www.national.com/pf/DS/DS8921AT.html; ComponentLink3Description: M08A Package Page; ComponentLink3URL: http://www.national.com/packaging/folders/m08a.html
footprint M08A_N (SOIC, 8-Leads, Body 4.9x3.9mm, Pitch 1.27mm, IPC Medium Density)
footprint M08A_L (SOIC, 8-Leads, Body 4.9x3.9mm, Pitch 1.27mm, IPC High Density)
footprint M08A_M (SOIC, 8-Leads, Body 4.9x3.9mm, Pitch 1.27mm, IPC Low Density)
pins: 1 VCC (power), 2 RO (out), 3 DI (in), 4 GND (power), 5 DO- (out), 6 DO+ (out), 7 RI- (in), 8 RI+ (in)

## DS8921M
designator U?
Differential Line Driver and Receiver Pair; PartNumber: DS8921M; Manufacturer: National Semiconductor; CompType: Interface IC; PackageTopMarking: NSZXTT*DS892*1M; Published: 4-Dec-2008; DatasheetVersion: May-1998; PackageVersion: revL, Sep-2006; PackageReference: M08A; Publisher: Altium Limited; PackageDescription: SOIC Narrow, 4.9 x 3.9 x 1.45mm, 8 Lead, 1.27mm Pitch; RoHS: Y; PinCount: 8; DigiKeyPartNumber: DS8921M-ND; Code_JEDEC: MS-012-AA; Code_IPC: SOIC127P600-8; ComponentLink1Description: DS8921 Datasheet; ComponentLink1URL: http://www.national.com/ds/DS/DS8921.pdf; ComponentLink2Description: DS8921 Web Page; ComponentLink2URL: http://www.national.com/pf/DS/DS8921.html; ComponentLink3Description: M08A Package Page; ComponentLink3URL: http://www.national.com/packaging/folders/m08a.html
footprint M08A_N (SOIC, 8-Leads, Body 4.9x3.9mm, Pitch 1.27mm, IPC Medium Density)
footprint M08A_L (SOIC, 8-Leads, Body 4.9x3.9mm, Pitch 1.27mm, IPC High Density)
footprint M08A_M (SOIC, 8-Leads, Body 4.9x3.9mm, Pitch 1.27mm, IPC Low Density)
pins: 1 VCC (power), 2 RO (out), 3 DI (in), 4 GND (power), 5 DO- (out), 6 DO+ (out), 7 RI- (in), 8 RI+ (in)

## DS8921N
designator U?
Differential Line Driver and Receiver Pair; PartNumber: DS8921N; Manufacturer: National Semiconductor; CompType: Interface IC; PackageTopMarking: NSUZXYTT*DS8921N; Published: 4-Dec-2008; DatasheetVersion: May-1998; PackageVersion: revG, May-2006; PackageReference: N08E; Publisher: Altium Limited; PackageDescription: MDIP, .365 x .250 x .130in, 8 Lead, .100in Pitch; RoHS: O; PinCount: 8; DigiKeyPartNumber: DS8921N-ND; Code_JEDEC: MS-001-BA; ComponentLink1Description: DS8921 Datasheet; ComponentLink1URL: http://www.national.com/ds/DS/DS8921.pdf; ComponentLink2Description: DS8921 Web Page; ComponentLink2URL: http://www.national.com/pf/DS/DS8921.html; ComponentLink3Description: N08E Package Page; ComponentLink3URL: http://www.national.com/packaging/folders/n08e.html
footprint N08E (DIP, 8-Leads, Row Spacing 7.62mm, Pitch 2.54mm, Body 9.91x6.35mm)
pins: 1 VCC (power), 2 RO (out), 3 DI (in), 4 GND (power), 5 DO- (out), 6 DO+ (out), 7 RI- (in), 8 RI+ (in)

## DS8922AM
designator U?
Tri-State RS-422 Dual Differential Line Driver and Receiver Pairs; PartNumber: DS8922AM; Manufacturer: National Semiconductor; CompType: Interface IC; PackageTopMarking: NSUZXYTT*DS8922AM; Published: 4-Dec-2008; DatasheetVersion: Jul-2004; PackageVersion: revJ, Aug-1995; PackageReference: M16A; Publisher: Altium Limited; PackageDescription: Molded Package, S.O., .150in Wide, 16 Lead; RoHS: O; PinCount: 16; DigiKeyPartNumber: DS8922AM-ND; Code_JEDEC: MS-012-AC; Code_IPC: SOIC127P600-16; ComponentLink1Description: DS8922A Datasheet; ComponentLink1URL: http://www.national.com/ds/DS/DS8922A.pdf; ComponentLink2Description: DS8922A Web Page; ComponentLink2URL: http://www.national.com/pf/DS/DS8922A.html; ComponentLink3Description: M16A Package Page; ComponentLink3URL: http://www.national.com/packaging/folders/m16a.html
footprint M16A_N (SOIC, 16-Leads, Body 9.9x3.9mm, Pitch 1.27mm, IPC Medium Density)
footprint M16A_L (SOIC, 16-Leads, Body 9.9x3.9mm, Pitch 1.27mm, IPC High Density)
footprint M16A_M (SOIC, 16-Leads, Body 9.9x3.9mm, Pitch 1.27mm, IPC Low Density)
pins: 1 RO1 (hiz), 2 DI1 (in), 3 VCC (power), 4 ~{EN}1 (in), 5 ~{EN}2 (in), 6 GND (power), 7 DI2 (in), 8 RO2 (hiz), 9 RI2+ (in), 10 RI2- (in), 11 DO2 (hiz), 12 ~{DO}2 (hiz), 13 ~{DO}1 (hiz), 14 DO1 (hiz), 15 RI1- (in), 16 RI1+ (in)

## DS8923AM
designator U?
Tri-State RS-422 Dual Differential Line Driver and Receiver Pairs; PartNumber: DS8923AM; Manufacturer: National Semiconductor; CompType: Interface IC; PackageTopMarking: NSUZXYTT*DS8923AM; Published: 4-Dec-2008; DatasheetVersion: Jul-2004; PackageVersion: revJ, Aug-1995; PackageReference: M16A; Publisher: Altium Limited; PackageDescription: Molded Package, S.O., .150in Wide, 16 Lead; RoHS: O; PinCount: 16; DigiKeyPartNumber: DS8923AM-ND; Code_JEDEC: MS-012-AC; Code_IPC: SOIC127P600-16; ComponentLink1Description: DS8923A Datasheet; ComponentLink1URL: http://www.national.com/ds/DS/DS8923A.pdf; ComponentLink2Description: DS8923A Web Page; ComponentLink2URL: http://www.national.com/pf/DS/DS8923A.html; ComponentLink3Description: M16A Package Page; ComponentLink3URL: http://www.national.com/packaging/folders/m16a.html
footprint M16A_N (SOIC, 16-Leads, Body 9.9x3.9mm, Pitch 1.27mm, IPC Medium Density)
footprint M16A_L (SOIC, 16-Leads, Body 9.9x3.9mm, Pitch 1.27mm, IPC High Density)
footprint M16A_M (SOIC, 16-Leads, Body 9.9x3.9mm, Pitch 1.27mm, IPC Low Density)
pins: 1 RO1 (hiz), 2 DI1 (in), 3 VCC (power), 4 ~{EN}1 (in), 5 ~{EN}2 (in), 6 GND (power), 7 DI2 (in), 8 RO2 (hiz), 9 RI2+ (in), 10 RI2- (in), 11 DO2 (hiz), 12 ~{DO}2 (hiz), 13 ~{DO}1 (hiz), 14 DO1 (hiz), 15 RI1- (in), 16 RI1+ (in)

## DS8923AN
designator U?
Tri-State RS-422 Dual Differential Line Driver and Receiver Pairs; PartNumber: DS8923AN; Manufacturer: National Semiconductor; CompType: Interface IC; PackageTopMarking: NSUZXYYTT*DS8923AN; Published: 4-Dec-2008; DatasheetVersion: Jul-2004; PackageVersion: revG, May-2006; PackageReference: N16E; Publisher: Altium Limited; PackageDescription: MDIP, .750 x .250 x.130in, 16 Lead, .100in Pitch; RoHS: Y; PinCount: 16; DigiKeyPartNumber: DS8923AN-ND; Code_JEDEC: MS-001-BB; ComponentLink1Description: DS8923A Datasheet; ComponentLink1URL: http://www.national.com/ds/DS/DS8923A.pdf; ComponentLink2Description: DS8923A Web Page; ComponentLink2URL: http://www.national.com/pf/DS/DS8923A.html; ComponentLink3Description: N16E Package Page; ComponentLink3URL: http://www.national.com/packaging/folders/n16e.html
footprint N16E (DIP, 16-Leads, Row Spacing 7.62mm, Pitch 2.54mm, Body 19.3x6.35mm)
pins: 1 RO1 (hiz), 2 DI1 (in), 3 VCC (power), 4 ~{DEN} (in), 5 ~{REN} (in), 6 GND (power), 7 DI2 (in), 8 RO2 (hiz), 9 RI2+ (in), 10 RI2- (in), 11 DO2 (hiz), 12 ~{DO}2 (hiz), 13 ~{DO}1 (hiz), 14 DO1 (hiz), 15 RI1- (in), 16 RI1+ (in)

## DS9637ACM
designator U?
Dual Differential Line Receiver; PartNumber: DS9637ACM; Manufacturer: National Semiconductor; CompType: Interface IC; PackageTopMarking: NSZXTT*DS963*7ACM; Published: 4-Dec-2008; DatasheetVersion: Dec-2007; PackageVersion: revL, Sep-2006; PackageReference: M08A; Publisher: Altium Limited; PackageDescription: SOIC Narrow, 4.9 x 3.9 x 1.45mm, 8 Lead, 1.27mm Pitch; RoHS: O; PinCount: 8; DigiKeyPartNumber: DS9637ACM-ND; Code_JEDEC: MS-012-AA; Code_IPC: SOIC127P600-8; ComponentLink1Description: DS9637A Datasheet; ComponentLink1URL: http://www.national.com/ds/DS/DS9637A.pdf; ComponentLink2Description: DS9637A Web Page; ComponentLink2URL: http://www.national.com/pf/DS/DS9637A.html; ComponentLink3Description: M08A Package Page; ComponentLink3URL: http://www.national.com/packaging/folders/m08a.html
footprint M08A_N (SOIC, 8-Leads, Body 4.9x3.9mm, Pitch 1.27mm, IPC Medium Density)
footprint M08A_L (SOIC, 8-Leads, Body 4.9x3.9mm, Pitch 1.27mm, IPC High Density)
footprint M08A_M (SOIC, 8-Leads, Body 4.9x3.9mm, Pitch 1.27mm, IPC Low Density)
pins: 1 VCC (power), 2 OUT A (out), 3 OUT B (out), 4 GND (power), 5 IN B- (in), 6 IN B+ (in), 7 IN A- (in), 8 IN A+ (in)

## DS9637AMJ/883
designator U?
Dual Differential Line Receiver; PartNumber: DS9637AMJ/883; Manufacturer: National Semiconductor; CompType: Interface IC; PackageTopMarking: NSZSSXXYYA*DS9637AMJ/*883 Q 5962-*8752401PA; Published: 4-Dec-2008; DatasheetVersion: Dec-2007; PackageVersion: revM, Jul-2002; PackageReference: J08A; Publisher: Altium Limited; PackageDescription: Cerdip, .400 x .310in Body, 8 Lead, .300in Centers, .100in Pitch; RoHS: N; PinCount: 8; ComponentLink1Description: DS9637A Datasheet; ComponentLink1URL: http://www.national.com/ds/DS/DS9637A.pdf; ComponentLink2Description: DS9637A Web Page; ComponentLink2URL: http://www.national.com/pf/DS/DS9637A.html; ComponentLink3Description: J08A Package Page; ComponentLink3URL: http://www.national.com/packaging/folders/j08a.html
footprint J08A (DIP, 8-Leads, Row Spacing 7.62mm, Pitch 2.54mm, Body 9.78x6.73mm)
pins: 1 VCC (power), 2 OUT A (out), 3 OUT B (out), 4 GND (power), 5 IN B- (in), 6 IN B+ (in), 7 IN A- (in), 8 IN A+ (in)

## DS9638CM
designator U?
RS-422 Dual High Speed Differential Line Driver; PartNumber: DS9638CM; Manufacturer: National Semiconductor; CompType: Interface IC; PackageTopMarking: NSZXTT*DS963*8CM; Published: 4-Dec-2008; DatasheetVersion: May-1998; PackageVersion: revL, Sep-2006; PackageReference: M08A; Publisher: Altium Limited; PackageDescription: SOIC Narrow, 4.9 x 3.9 x 1.45mm, 8 Lead, 1.27mm Pitch; RoHS: Y; PinCount: 8; DigiKeyPartNumber: DS9638CM-ND; Code_JEDEC: MS-012-AA; Code_IPC: SOIC127P600-8; ComponentLink1Description: DS9638 Datasheet; ComponentLink1URL: http://www.national.com/ds/DS/DS9638.pdf; ComponentLink2Description: DS9638 Web Page; ComponentLink2URL: http://www.national.com/pf/DS/DS9638.html; ComponentLink3Description: M08A Package Page; ComponentLink3URL: http://www.national.com/packaging/folders/m08a.html
footprint M08A_N (SOIC, 8-Leads, Body 4.9x3.9mm, Pitch 1.27mm, IPC Medium Density)
footprint M08A_L (SOIC, 8-Leads, Body 4.9x3.9mm, Pitch 1.27mm, IPC High Density)
footprint M08A_M (SOIC, 8-Leads, Body 4.9x3.9mm, Pitch 1.27mm, IPC Low Density)
pins: 1 VCC (power), 2 INA (in), 3 INB (in), 4 GND (power), 5 OUTB- (out), 6 OUTB+ (out), 7 OUTA- (out), 8 OUTA+ (out)

## DS9638J/883
designator U?
RS-422 Dual High Speed Differential Line Driver; PartNumber: DS9638J/883; Manufacturer: National Semiconductor; CompType: Interface IC; PackageTopMarking: NSZSSXXYYA*DS9638J/883*Q 5962-*8754601PA; Published: 4-Dec-2008; DatasheetVersion: May-1998; PackageVersion: revM, Jul-2002; PackageReference: J08A; Publisher: Altium Limited; PackageDescription: Cerdip, .400 x .310in Body, 8 Lead, .300in Centers, .100in Pitch; RoHS: N; PinCount: 8; ComponentLink1Description: DS9638 Datasheet; ComponentLink1URL: http://www.national.com/ds/DS/DS9638.pdf; ComponentLink2Description: DS9638 Web Page; ComponentLink2URL: http://www.national.com/pf/DS/DS9638.html; ComponentLink3Description: J08A Package Page; ComponentLink3URL: http://www.national.com/packaging/folders/j08a.html
footprint J08A (DIP, 8-Leads, Row Spacing 7.62mm, Pitch 2.54mm, Body 9.78x6.73mm)
pins: 1 VCC (power), 2 IN A (in), 3 IN B (in), 4 GND (power), 5 OUT ~{B} (out), 6 OUT B (out), 7 OUT ~{A} (out), 8 OUT A (out)

## DS14185WM
designator U?
EIA/TIA-232 3 Driver x 5 Receiver; PartNumber: DS14185WM; Manufacturer: National Semiconductor; CompType: Interface IC; PackageTopMarking: NSUZXYTT*DS14185WM; Published: 4-Dec-2008; DatasheetVersion: Apr-1999; PackageVersion: revG, Jan-1996; PackageReference: M20B; Publisher: Altium Limited; PackageDescription: Molded Package, S.O., .300in Wide, 20 Lead; RoHS: O; PinCount: 20; DigiKeyPartNumber: DS14185WM-ND; Code_JEDEC: MS-013-AC; Code_IPC: SOIC127P1030-20; ComponentLink1Description: DS14185 Datasheet; ComponentLink1URL: http://www.national.com/ds/DS/DS14185.pdf; ComponentLink2Description: DS14185 Web Page; ComponentLink2URL: http://www.national.com/pf/DS/DS14185.html; ComponentLink3Description: M20B Package Page; ComponentLink3URL: http://www.national.com/packaging/folders/m20b.html
footprint M20B_N (SOIC, 20-Leads, Body 12.8x7.5mm, Pitch 1.27mm, IPC Medium Density)
footprint M20B_L (SOIC, 20-Leads, Body 12.8x7.5mm, Pitch 1.27mm, IPC High Density)
footprint M20B_M (SOIC, 20-Leads, Body 12.8x7.5mm, Pitch 1.27mm, IPC Low Density)
pins: 1 V+ (power), 2 RIN1 (in), 3 RIN2 (in), 4 RIN3 (in), 5 DOUT1 (out), 6 DOUT2 (out), 7 RIN4 (in), 8 DOUT3 (out), 9 RIN5 (in), 10 V- (power), 11 GND (power), 12 ROUT5 (out), 13 DIN3 (in), 14 ROUT4 (out), 15 DIN2 (in), 16 DIN1 (in), 17 ROUT3 (out), 18 ROUT2 (out), 19 ROUT1 (out), 20 VCC (power)
text: R1; R2; R3; R4; R5; D1; D2; D3

## DS36276M
designator U?
FailSafe Multipoint Transceiver; PartNumber: DS36276M; Manufacturer: National Semiconductor; CompType: Interface IC; PackageTopMarking: NSZXTT*DS36*276M; Published: 4-Dec-2008; DatasheetVersion: Jul-1998; PackageVersion: revL, Sep-2006; PackageReference: M08A; Publisher: Altium Limited; PackageDescription: SOIC Narrow, 4.9 x 3.9 x 1.45mm, 8 Lead, 1.27mm Pitch; RoHS: O; PinCount: 8; DigiKeyPartNumber: DS36276M-ND; Code_JEDEC: MS-012-AA; Code_IPC: SOIC127P600-8; ComponentLink1Description: DS36276 Datasheet; ComponentLink1URL: http://www.national.com/ds/DS/DS36276.pdf; ComponentLink2Description: DS36276 Web Page; ComponentLink2URL: http://www.national.com/pf/DS/DS36276.html; ComponentLink3Description: M08A Package Page; ComponentLink3URL: http://www.national.com/packaging/folders/m08a.html
footprint M08A_N (SOIC, 8-Leads, Body 4.9x3.9mm, Pitch 1.27mm, IPC Medium Density)
footprint M08A_L (SOIC, 8-Leads, Body 4.9x3.9mm, Pitch 1.27mm, IPC High Density)
footprint M08A_M (SOIC, 8-Leads, Body 4.9x3.9mm, Pitch 1.27mm, IPC Low Density)
pins: 1 RO (out), 2 ~{RE} (in), 3 DE (in), 4 DI (in), 5 GND (power), 6 DO/RI (io), 7 ~{DO}/~{RI} (io), 8 VCC (power)

## DS36277TM
designator U?
Dominant Mode Multipoint Transceiver; PartNumber: DS36277TM; Manufacturer: National Semiconductor; CompType: Interface IC; PackageTopMarking: NSZXTT*DS362*77TM; Published: 4-Dec-2008; DatasheetVersion: Feb-2002; PackageVersion: revL, Sep-2006; PackageReference: M08A; Publisher: Altium Limited; PackageDescription: SOIC Narrow, 4.9 x 3.9 x 1.45mm, 8 Lead, 1.27mm Pitch; RoHS: O; PinCount: 8; DigiKeyPartNumber: DS36277TM-ND; Code_JEDEC: MS-012-AA; Code_IPC: SOIC127P600-8; ComponentLink1Description: DS36277 Datasheet; ComponentLink1URL: http://www.national.com/ds/DS/DS36277.pdf; ComponentLink2Description: DS36277 Web Page; ComponentLink2URL: http://www.national.com/pf/DS/DS36277.html; ComponentLink3Description: M08A Package Page; ComponentLink3URL: http://www.national.com/packaging/folders/m08a.html
footprint M08A_N (SOIC, 8-Leads, Body 4.9x3.9mm, Pitch 1.27mm, IPC Medium Density)
footprint M08A_L (SOIC, 8-Leads, Body 4.9x3.9mm, Pitch 1.27mm, IPC High Density)
footprint M08A_M (SOIC, 8-Leads, Body 4.9x3.9mm, Pitch 1.27mm, IPC Low Density)
pins: 1 RO (out), 2 ~{RE} (in), 3 ~{DE} (in), 4 DI (in), 5 GND (power), 6 DO/RI (io), 7 ~{DO}/~{RI} (io), 8 VCC (power)

## DS36950V
designator U?
Quad Differential Bus Transceiver; PartNumber: DS36950V; Manufacturer: National Semiconductor; CompType: Interface IC; PackageTopMarking: NSUZXYTT*DS36950V; Published: 4-Dec-2008; DatasheetVersion: Jul-1998; PackageVersion: revL, Dec-1993; PackageReference: V20A; Publisher: Altium Limited; PackageDescription: Plastic Chip Carrier, Sq., .050mil Lead Pitch, 20 Lead; RoHS: O; PinCount: 20; DigiKeyPartNumber: DS36950V-ND; Code_JEDEC: MO-047-AA; Code_IPC: PLCC-20; ComponentLink1Description: DS36950 Datasheet; ComponentLink1URL: http://www.national.com/ds/DS/DS36950.pdf; ComponentLink2Description: DS36950 Web Page; ComponentLink2URL: http://www.national.com/pf/DS/DS36950.html; ComponentLink3Description: V20A Package Page; ComponentLink3URL: http://www.national.com/packaging/folders/v20a.html
footprint V20A_N (Leaded Chip Carrier, 20-Leads, Body 9x9mm, Pitch 1.27mm, IPC Medium Density)
footprint V20A_L (Leaded Chip Carrier, 20-Leads, Body 9x9mm, Pitch 1.27mm, IPC High Density)
footprint V20A_M (Leaded Chip Carrier, 20-Leads, Body 9x9mm, Pitch 1.27mm, IPC Low Density)
pins: 1 ~{REC} (in), 2 DE1 (in), 3 DR1 (io), 4 DR2 (io), 5 DE2 (in), 6 DE3 (in), 7 DR3 (io), 8 DR4 (io), 9 DE4 (in), 10 ~{RE4} (in), 11 GND (power), 12 OB4 (io), 13 OA4 (io), 14 OB3 (io), 15 OA3 (io), 16 VCC (power), 17 OB2 (io), 18 OA2 (io), 19 OB1 (io), 20 OA1 (io)

## DS36954M
designator U?
Quad Differential Bus Transceiver; PartNumber: DS36954M; Manufacturer: National Semiconductor; CompType: Interface IC; PackageTopMarking: NSUZXYTT*DS36954*M; Published: 4-Dec-2008; DatasheetVersion: Jul-1998; PackageVersion: revG, Jan-1996; PackageReference: M20B; Publisher: Altium Limited; PackageDescription: Molded Package, S.O., .300in Wide, 20 Lead; RoHS: O; PinCount: 20; DigiKeyPartNumber: DS36954M-ND; Code_JEDEC: MS-013-AC; Code_IPC: SOIC127P1030-20; ComponentLink1Description: DS36954 Datasheet; ComponentLink1URL: http://www.national.com/ds/DS/DS36954.pdf; ComponentLink2Description: DS36954 Web Page; ComponentLink2URL: http://www.national.com/pf/DS/DS36954.html; ComponentLink3Description: M20B Package Page; ComponentLink3URL: http://www.national.com/packaging/folders/m20b.html
footprint M20B_N (SOIC, 20-Leads, Body 12.8x7.5mm, Pitch 1.27mm, IPC Medium Density)
footprint M20B_L (SOIC, 20-Leads, Body 12.8x7.5mm, Pitch 1.27mm, IPC High Density)
footprint M20B_M (SOIC, 20-Leads, Body 12.8x7.5mm, Pitch 1.27mm, IPC Low Density)
pins: 1 DE1/~{RE}1 (io), 2 DR1 (io), 3 DR2 (io), 4 DE2/~{RE}2 (io), 5 DE3/~{RE}3 (io), 6 DR3 (io), 7 RO4 (out), 8 D14 (in), 9 DE4 (in), 10 ~{RE4} (in), 11 GND (power), 12 OB4 (io), 13 OA4 (io), 14 OB3 (io), 15 OA3 (io), 16 VCC (power), 17 OB2 (io), 18 OA2 (io), 19 OB1 (io), 20 OA1 (io)

## DS36954VX
designator U?
Quad Differential Bus Transceiver; PartNumber: DS36954VX; Manufacturer: National Semiconductor; CompType: Interface IC; PackageTopMarking: NSUZXYTT*DS36954V; Published: 4-Dec-2008; DatasheetVersion: Jul-1998; PackageVersion: revL, Dec-1993; PackageReference: V20A; Publisher: Altium Limited; PackageDescription: Plastic Chip Carrier, Sq., .050mil Lead Pitch, 20 Lead; RoHS: O; PinCount: 20; DigiKeyPartNumber: DS36954VX-ND; Code_JEDEC: MO-047-AA; Code_IPC: PLCC-20; ComponentLink1Description: DS36954 Datasheet; ComponentLink1URL: http://www.national.com/ds/DS/DS36954.pdf; ComponentLink2Description: DS36954 Web Page; ComponentLink2URL: http://www.national.com/pf/DS/DS36954.html; ComponentLink3Description: V20A Package Page; ComponentLink3URL: http://www.national.com/packaging/folders/v20a.html
footprint V20A_N (Leaded Chip Carrier, 20-Leads, Body 9x9mm, Pitch 1.27mm, IPC Medium Density)
footprint V20A_L (Leaded Chip Carrier, 20-Leads, Body 9x9mm, Pitch 1.27mm, IPC High Density)
footprint V20A_M (Leaded Chip Carrier, 20-Leads, Body 9x9mm, Pitch 1.27mm, IPC Low Density)
pins: 1 DE1/~{RE}1 (io), 2 DR1 (io), 3 DR2 (io), 4 DE2/~{RE}2 (io), 5 DE3/~{RE}3 (io), 6 DR3 (io), 7 RO4 (out), 8 D14 (in), 9 DE4 (in), 10 ~{RE4} (in), 11 GND (power), 12 OB4 (io), 13 OA4 (io), 14 OB3 (io), 15 OA3 (io), 16 VCC (power), 17 OB2 (io), 18 OA2 (io), 19 OB1 (io), 20 OA1 (io)

## DS75176BM
designator U?
Multipoint RS-485/RS-422 Transceiver; PartNumber: DS75176BM; Manufacturer: National Semiconductor; CompType: Interface IC; PackageTopMarking: NSZXTT*DS751*76BM; Published: 4-Dec-2008; DatasheetVersion: Jul-2004; PackageVersion: revL, Sep-2006; PackageReference: M08A; Publisher: Altium Limited; PackageDescription: SOIC Narrow, 4.9 x 3.9 x 1.45mm, 8 Lead, 1.27mm Pitch; RoHS: O; PinCount: 8; DigiKeyPartNumber: DS75176BM-ND; Code_JEDEC: MS-012-AA; Code_IPC: SOIC127P600-8; ComponentLink1Description: DS75176B Datasheet; ComponentLink1URL: http://www.national.com/ds/DS/DS75176B.pdf; ComponentLink2Description: DS75176B Web Page; ComponentLink2URL: http://www.national.com/pf/DS/DS75176B.html; ComponentLink3Description: M08A Package Page; ComponentLink3URL: http://www.national.com/packaging/folders/m08a.html
footprint M08A_N (SOIC, 8-Leads, Body 4.9x3.9mm, Pitch 1.27mm, IPC Medium Density)
footprint M08A_L (SOIC, 8-Leads, Body 4.9x3.9mm, Pitch 1.27mm, IPC High Density)
footprint M08A_M (SOIC, 8-Leads, Body 4.9x3.9mm, Pitch 1.27mm, IPC Low Density)
pins: 1 RO (out), 2 ~{RE} (in), 3 DE (in), 4 DI (in), 5 GND (power), 6 DO/RI (io), 7 ~{DO}/~{RI} (io), 8 VCC (power)

## DS75176BN
designator U?
Multipoint RS-485/RS-422 Transceiver; PartNumber: DS75176BN; Manufacturer: National Semiconductor; CompType: Interface IC; PackageTopMarking: NSUZXYTT*DS75176BN; Published: 4-Dec-2008; DatasheetVersion: Jul-2004; PackageVersion: revG, May-2006; PackageReference: N08E; Publisher: Altium Limited; PackageDescription: MDIP, .365 x .250 x .130in, 8 Lead, .100in Pitch; RoHS: O; PinCount: 8; DigiKeyPartNumber: DS75176BN-ND; Code_JEDEC: MS-001-BA; ComponentLink1Description: DS75176B Datasheet; ComponentLink1URL: http://www.national.com/ds/DS/DS75176B.pdf; ComponentLink2Description: DS75176B Web Page; ComponentLink2URL: http://www.national.com/pf/DS/DS75176B.html; ComponentLink3Description: N08E Package Page; ComponentLink3URL: http://www.national.com/packaging/folders/n08e.html
footprint N08E (DIP, 8-Leads, Row Spacing 7.62mm, Pitch 2.54mm, Body 9.91x6.35mm)
pins: 1 RO (out), 2 ~{RE} (in), 3 DE (in), 4 DI (in), 5 GND (power), 6 DO/RI (io), 7 ~{DO}/~{RI} (io), 8 VCC (power)

## DS75176BTM
designator U?
Multipoint RS-485/RS-422 Transceiver; PartNumber: DS75176BTM; Manufacturer: National Semiconductor; CompType: Interface IC; PackageTopMarking: NSZXTT*DS751*76BTM; Published: 4-Dec-2008; DatasheetVersion: Jul-2004; PackageVersion: revL, Sep-2006; PackageReference: M08A; Publisher: Altium Limited; PackageDescription: SOIC Narrow, 4.9 x 3.9 x 1.45mm, 8 Lead, 1.27mm Pitch; RoHS: O; PinCount: 8; DigiKeyPartNumber: DS75176BTM-ND; Code_JEDEC: MS-012-AA; Code_IPC: SOIC127P600-8; ComponentLink1Description: DS75176BT Datasheet; ComponentLink1URL: http://www.national.com/ds/DS/DS75176BT.pdf; ComponentLink2Description: DS75176BT Web Page; ComponentLink2URL: http://www.national.com/pf/DS/DS75176BT.html; ComponentLink3Description: M08A Package Page; ComponentLink3URL: http://www.national.com/packaging/folders/m08a.html
footprint M08A_N (SOIC, 8-Leads, Body 4.9x3.9mm, Pitch 1.27mm, IPC Medium Density)
footprint M08A_L (SOIC, 8-Leads, Body 4.9x3.9mm, Pitch 1.27mm, IPC High Density)
footprint M08A_M (SOIC, 8-Leads, Body 4.9x3.9mm, Pitch 1.27mm, IPC Low Density)
pins: 1 RO (out), 2 ~{RE} (in), 3 DE (in), 4 DI (in), 5 GND (power), 6 DO/RI (io), 7 ~{DO}/~{RI} (io), 8 VCC (power)

## DS75176BTN
designator U?
Multipoint RS-485/RS-422 Transceiver; PartNumber: DS75176BTN; Manufacturer: National Semiconductor; CompType: Interface IC; PackageTopMarking: NSUZXYTT*DS75176*BTN; Published: 4-Dec-2008; DatasheetVersion: Jul-2004; PackageVersion: revG, May-2006; PackageReference: N08E; Publisher: Altium Limited; PackageDescription: MDIP, .365 x .250 x .130in, 8 Lead, .100in Pitch; RoHS: O; PinCount: 8; DigiKeyPartNumber: DS75176BTN-ND; Code_JEDEC: MS-001-BA; ComponentLink1Description: DS75176BT Datasheet; ComponentLink1URL: http://www.national.com/ds/DS/DS75176BT.pdf; ComponentLink2Description: DS75176BT Web Page; ComponentLink2URL: http://www.national.com/pf/DS/DS75176BT.html; ComponentLink3Description: N08E Package Page; ComponentLink3URL: http://www.national.com/packaging/folders/n08e.html
footprint N08E (DIP, 8-Leads, Row Spacing 7.62mm, Pitch 2.54mm, Body 9.91x6.35mm)
pins: 1 RO (out), 2 ~{RE} (in), 3 DE (in), 4 DI (in), 5 GND (power), 6 DO/RI (io), 7 ~{DO}/~{RI} (io), 8 VCC (power)

## DS92001TLD
designator U?
3.3V B/LVDS-BLVDS Buffer; PartNumber: DS92001TLD; Manufacturer: National Semiconductor; CompType: Interface IC; PackageTopMarking: ZXYTT*92001; Published: 4-Dec-2008; DatasheetVersion: Sep-2006; PackageVersion: revC, Nov-2002; PackageReference: LDA08A; Publisher: Altium Limited; PackageDescription: LLP, Plastic, Dual, 3 x 3 x 0.75mm Body, 8 Lead, 0.5mm Pitch; RoHS: O; PinCount: 8; DigiKeyPartNumber: DS92001TLDTR-ND; ComponentLink1Description: DS92001 Datasheet; ComponentLink1URL: http://www.national.com/ds/DS/DS92001.pdf; ComponentLink2Description: DS92001 Web Page; ComponentLink2URL: http://www.national.com/pf/DS/DS92001.html; ComponentLink3Description: LDA08A Package Page; ComponentLink3URL: http://www.national.com/packaging/folders/lda08a.html
footprint LDA08A (PSON, 8-Leads, Body 3x3mm, Pitch 0.5mm, NSC Recommended)
pins: 1 GND (power), 2 IN- (in), 3 IN+ (in), 4 ~{LOS} (in), 5 VCC (power), 6 OUT+ (out), 7 OUT- (out), 8 EN (in), 9 GND (power)

## DS92001TMA
designator U?
3.3V B/LVDS-BLVDS Buffer; PartNumber: DS92001TMA; Manufacturer: National Semiconductor; CompType: Interface IC; PackageTopMarking: NSZXTT*92001*TMA; Published: 4-Dec-2008; DatasheetVersion: Sep-2006; PackageVersion: revL, Sep-2006; PackageReference: M08A; Publisher: Altium Limited; PackageDescription: SOIC Narrow, 4.9 x 3.9 x 1.45mm, 8 Lead, 1.27mm Pitch; RoHS: Y; PinCount: 8; DigiKeyPartNumber: DS92001TMA-ND; Code_JEDEC: MS-012-AA; Code_IPC: SOIC127P600-8; ComponentLink1Description: DS92001 Datasheet; ComponentLink1URL: http://www.national.com/ds/DS/DS92001.pdf; ComponentLink2Description: DS92001 Web Page; ComponentLink2URL: http://www.national.com/pf/DS/DS92001.html; ComponentLink3Description: M08A Package Page; ComponentLink3URL: http://www.national.com/packaging/folders/m08a.html
footprint M08A_N (SOIC, 8-Leads, Body 4.9x3.9mm, Pitch 1.27mm, IPC Medium Density)
footprint M08A_L (SOIC, 8-Leads, Body 4.9x3.9mm, Pitch 1.27mm, IPC High Density)
footprint M08A_M (SOIC, 8-Leads, Body 4.9x3.9mm, Pitch 1.27mm, IPC Low Density)
pins: 1 GND (power), 2 IN- (in), 3 IN+ (in), 4 ~{LOS} (in), 5 VCC (power), 6 OUT+ (out), 7 OUT- (out), 8 EN (in)